# EAGLE library part TPS2375/77 (library texas)
PoE POWERED DEVICE CONTROLLER
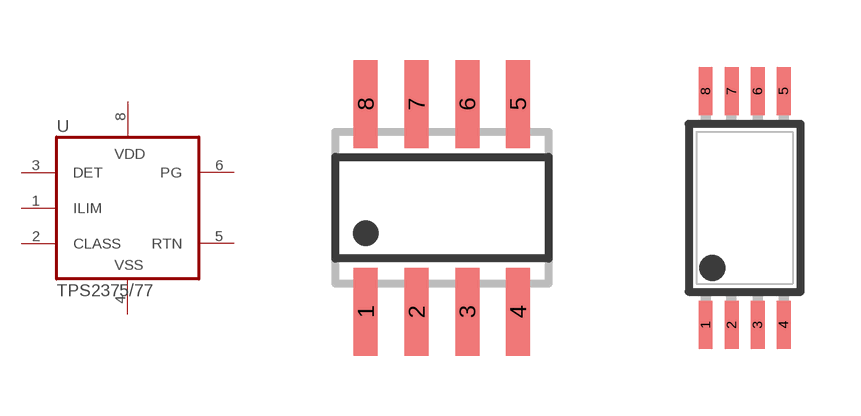
[diagram p35: symbol with the pads of SO08; footprints SO08, TSSOP8]

Designator prefix U

## TPS2375/77D  [SO08]
1  ILIM  out
2  CLASS  out
3  DET  out
4  VSS  pwr
5  RTN  out
6  PG  out
8  VDD  pwr

## TPS2375/77PW  [TSSOP8]
Pads as for SO08

## Footprint SO08 (pad centres in mm)
SMALL OUTLINE INTEGRATED CIRCUIT body 3.9 mm/JEDEC MS-012AA
smd 0.6 x 2.2: 1 -1.905,-2.6; 2 -0.635,-2.6; 3 0.635,-2.6; 4 1.905,-2.6; 5 1.905,2.6; 6 0.635,2.6; 7 -0.635,2.6; 8 -1.905,2.6

## Footprint TSSOP8 (pad centres in mm)
Thin Shrink Small Outline Plastic 8
smd 0.35 x 1.2: 1 -0.975,-2.925; 2 -0.325,-2.925; 3 0.325,-2.925; 4 0.975,-2.925; 5 0.975,2.925; 6 0.325,2.925; 7 -0.325,2.925; 8 -0.975,2.925